# EAGLE library part AMC3330QDWERQ1 (library AMC3330QDWERQ1)
Isolation Amplifiers Automotive +/-1-V input, precision reinforced isolated amplifier with integrated DC/DC converter 16-SOIC -40 to 125 Source: Datasheet <https://www.ti.com/lit/ds/symlink/amc3330.pdf?ts=1605812770714&ref_url=https%3A%2F%2Fwww.ti.com%2Fsitesearch%2Fdocs%2Funiversalsearch.tsp%3FsearchTerm%3DAMC3330DWE>
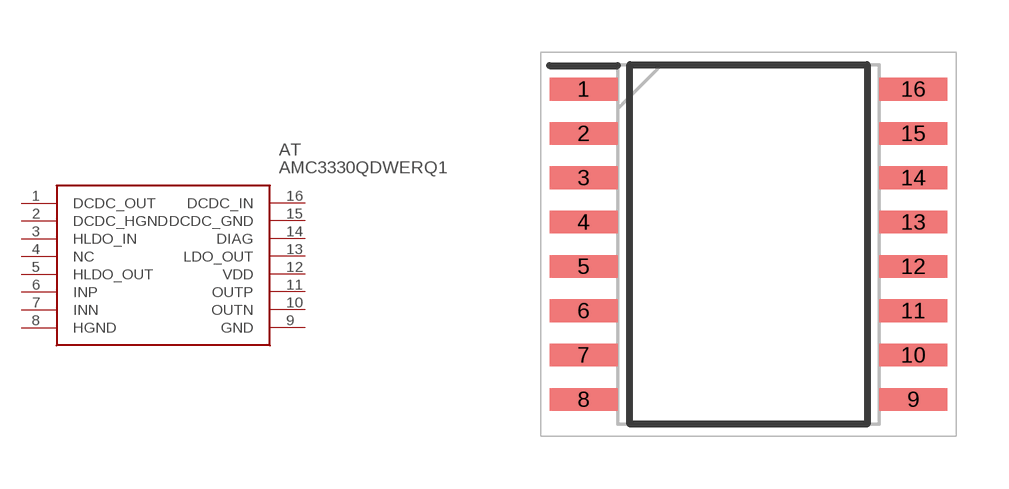
[diagram p0: symbol with the pads of SOIC127P1030X265-16N; footprint SOIC127P1030X265-16N]

Designator prefix AT

## AMC3330QDWERQ1 (Description: Isolation Amplifiers Automotive +/-1-V input, precision reinforced isolated amplifier with integrated DC/DC converter 16-SOIC -40 to 125; Height: 2.65mm; Manufacturer_Name: Texas Instruments; Manufacturer_Part_Number: AMC3330QDWERQ1; Mouser_Part_Number: 595-AMC3330QDWERQ1; Mouser_Price-Stock: https://www.mouser.co.uk/ProductDetail/Texas-Instruments/AMC3330QDWERQ1?qs=81r%252BiQLm7BThq9fK1XpIYg%3D%3D)  [SOIC127P1030X265-16N]
1  DCDC_OUT  pwr
2  DCDC_HGND  pwr
3  HLDO_IN  pwr
4  NC  nc
5  HLDO_OUT  pwr
6  INP  in
7  INN  in
8  HGND  pwr
9  GND  pwr
10  OUTN  out
11  OUTP  out
12  VDD  pwr
13  LDO_OUT  pwr
14  DIAG  out
15  DCDC_GND  pwr
16  DCDC_IN  pwr

## Footprint SOIC127P1030X265-16N (pad centres in mm)
16-SOIC
smd 1.95 x 0.65: 1 -4.725,4.445; 2 -4.725,3.175; 3 -4.725,1.905; 4 -4.725,0.635; 5 -4.725,-0.635; 6 -4.725,-1.905; 7 -4.725,-3.175; 8 -4.725,-4.445; 9 4.725,-4.445; 10 4.725,-3.175; 11 4.725,-1.905; 12 4.725,-0.635; 13 4.725,0.635; 14 4.725,1.905; 15 4.725,3.175; 16 4.725,4.445